# Altium schematic symbol library FODM8801.SchLib: 1 symbol
Pins are listed as number, name and electrical type; pins without a type are passive.

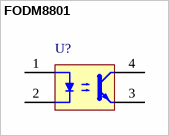
[diagram p0: symbol FODM8801]

## FODM8801
designator U?
pins: 1, 2, 3, 4